# Altium footprint library CONN_HEADERS_1-5_PINS.PcbLib: 3 footprints
Each footprint in its own frame and in the unit in brackets; x right, y up, seen from the top. Pads: shape width x height; smd on the part's side, far side on the other; paste and mask are expansions set on the pad; w line width, h text height; cw(c..) or ccw(c..) is an arc to the next point about the centre after c.
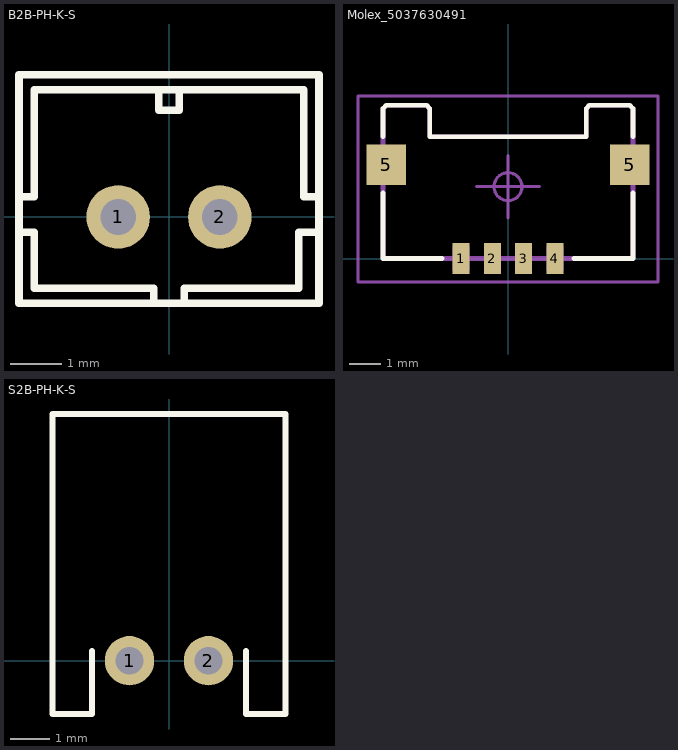
[diagram p0: the footprints below, top view; thin cyan lines are the x and y axes]

## B2B-PH-K-S [mm]
pads (2):
  round 1.25 hole 0.7: 1(-1,0) 2(1,0)
Top Overlay:
  lines w0.15: -0.3,-1.7 -0.3,-1.4 -2.65,-1.4 -2.65,-0.3 -2.95,-0.3 -2.95,0.4 -2.65,0.4 -2.65,2.5 2.65,2.5 2.65,0.4 2.95,0.4 ; -0.2,2.5 -0.2,2.1 0.2,2.1 0.2,2.5 ; 0.3,-1.7 0.3,-1.4 2.55,-1.4 2.55,-0.3 2.95,-0.3 ; -2.95,-1.7 2.95,-1.7 2.95,2.8 -2.95,2.8 -2.95,-1.7
3D body "B2B-PH-K-S.step": height 6.05, standoff -3.35, extent -2.95,-1.7 2.95,2.8

## Molex_5037630491 [mm]
pads (6):
  rect 0.55x1 smd: 1(-1.5,0) 2(-0.5,0) 3(0.5,0) 4(1.5,0)
  rect 1.26x1.3 smd: 5(-3.9,3) 5(3.9,3)
Top Overlay:
  lines w0.15: -4,2.1 -4,0 -2.1,0 ; -4,3.9 -4,4.8 -3.9,4.9 -2.6,4.9 -2.5,4.8 -2.5,3.9 2.5,3.9 2.5,4.8 2.6,4.9 3.9,4.9 4,4.8 4,3.9 ; 2.1,0 4,0 4,2.1
Mechanical 14:
  lines w0.15: -1.7,0.3 -1.3,0.3 ; -1.7,0.35 -1.7,-0.35 -1.3,-0.35 -1.3,0.35 ; -0.7,0.3 -0.3,0.3 ; -0.7,0.35 -0.7,-0.35 -0.3,-0.35 -0.3,0.35 ; 0.3,0.3 0.7,0.3 ; 0.3,0.35 0.3,-0.35 0.7,-0.35 0.7,0.35 ; 1.3,0.3 1.7,0.3 ; 1.3,0.35 1.3,-0.35 1.7,-0.35 1.7,0.35 ; -4,0 -4,4.8 -3.9,4.9 -2.6,4.9 -2.5,4.8 -2.5,3.9 2.5,3.9 2.5,4.8 2.6,4.9 3.9,4.9 4,4.8 4,0 -4,0
  text ".Designator" at -1.2,1.8 h1
Mechanical 15:
  circle w0.1: c0,2.3 r0.447
  lines w0.1: -1,2.3 1,2.3 ; 0,1.3 0,3.3 ; -4.8,-0.75 -4.8,5.2 4.8,5.2 4.8,-0.75 -4.8,-0.75
3D body "5037630491.stp": height 1.48, standoff -0.02, extent -4.3,-0.29 4.3,4.9

## S2B-PH-K-S [mm]
pads (2):
  round 1.25 hole 0.7: 1(-1,0) 2(1,0)
Top Overlay:
  lines w0.15: -1.95,0.25 -1.95,-1.35 -2.95,-1.35 -2.95,6.25 2.95,6.25 2.95,-1.35 1.95,-1.35 1.95,0.25
3D body "S2B-PH-K-S.step": height 4.85, standoff -3.35, extent -2.95,-1.35 2.95,6.25